# Altium schematic symbol library CL31B106KAHVPNE.SchLib: 2 symbols
Pins are listed as number, name and electrical type; pins without a type are passive.

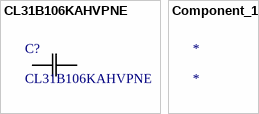
[diagram p0: symbols CL31B106KAHVPNE to Component_1]

## CL31B106KAHVPNE
designator C?
10 µF ±10% 25V Ceramic Capacitor X7R 1206 (3216 Metric); Mfr_Name: Samsung; Type: DEV; Copyright: Copyright (C) 2023 Ultra Librarian. All rights reserved.; Manufacturer_Part_Number: CL31B106KAHVPNE; Digi-Key_Part_Number_1: 1276-6814-1-ND; Digi-Key_Part_Number_2: 1276-6814-2-ND; Digi-Key_Part_Number_3: 1276-6814-6-ND; RefDes: RefDes
footprint CAP_CL31B_SAM
pins: 1, 2

## Component_1
designator *